# Altium footprint library conn_sw.PCBLIB: 173 footprints (part 8 of 11)
Each footprint in its own frame and in the unit in brackets; x right, y up, seen from the top. Pads: shape width x height; smd on the part's side, far side on the other; paste and mask are expansions set on the pad; w line width, h text height; cw(c..) or ccw(c..) is an arc to the next point about the centre after c.
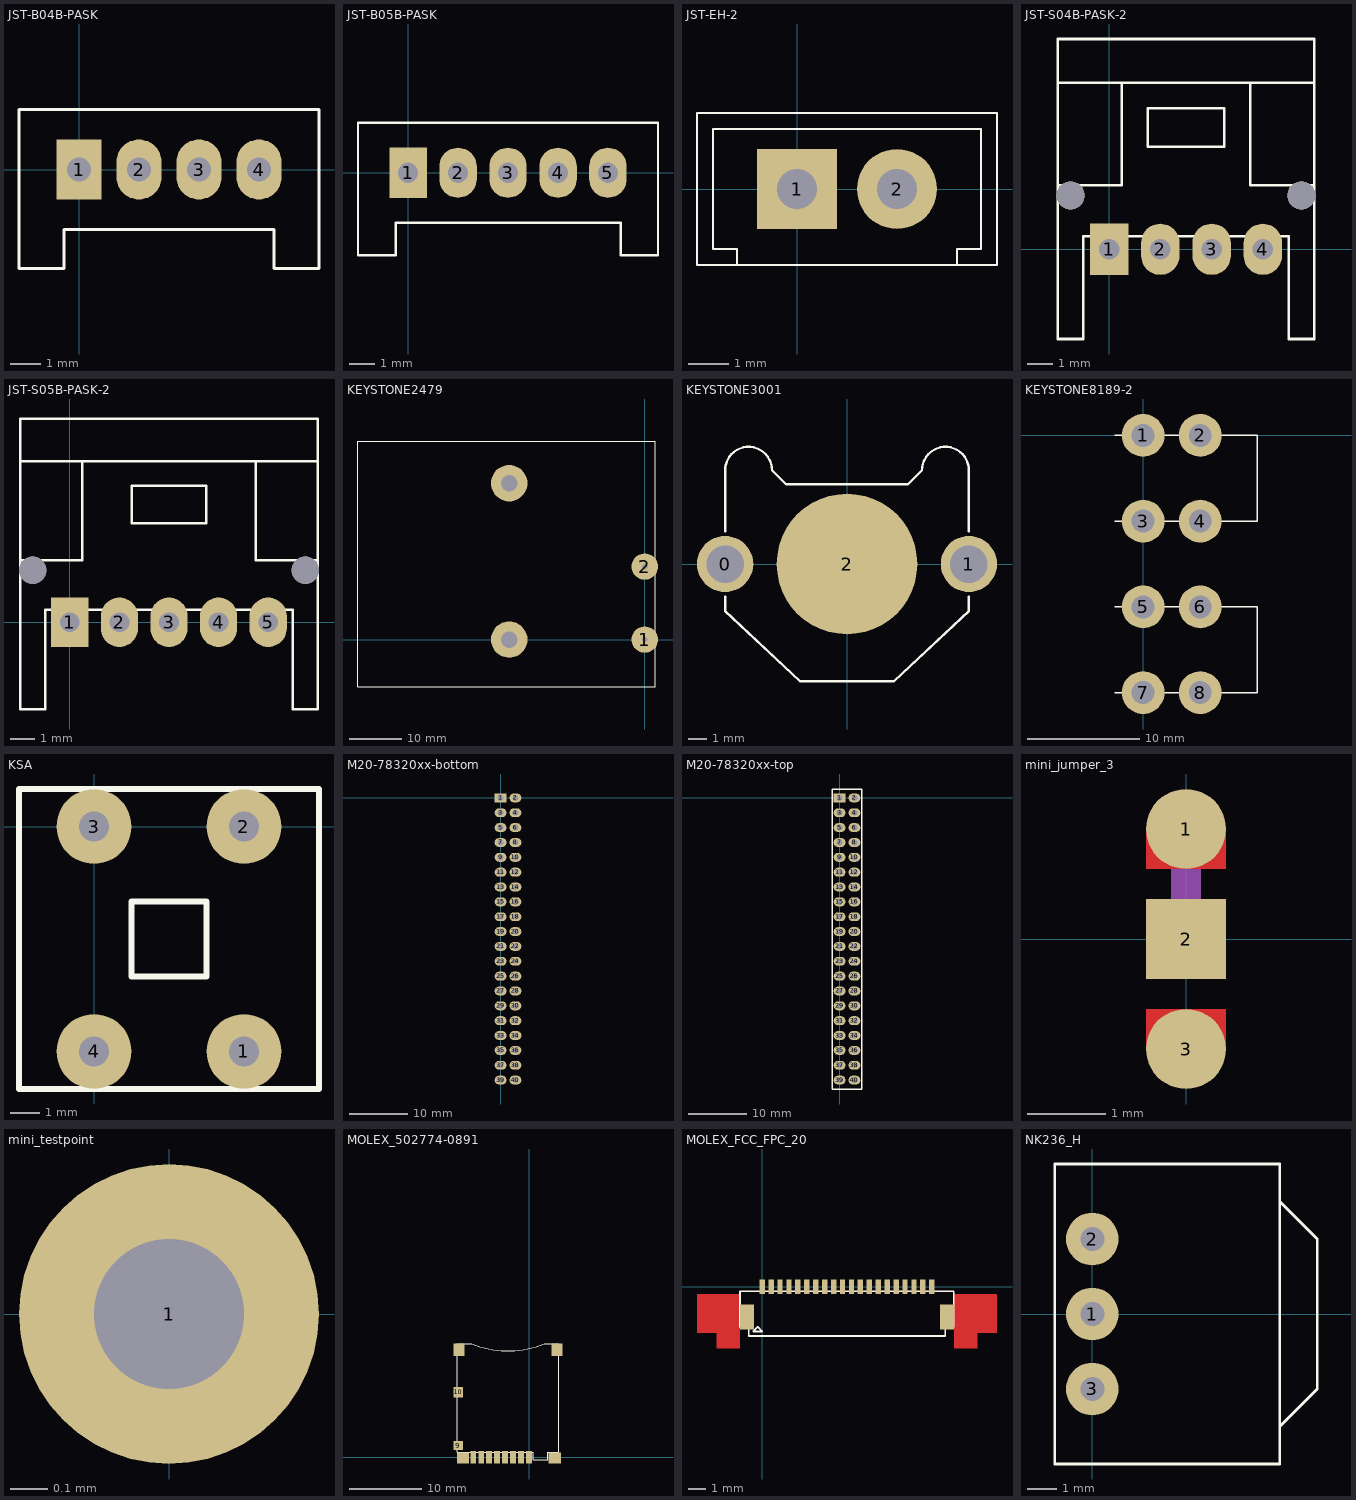
[diagram p7: the footprints below, top view; thin cyan lines are the x and y axes]

## JST-B04B-PASK [mm]
height 6
pads (4):
  rect 1.5x2 hole 0.8: 1(0,0)
  oval 1.5x2 hole 0.8: 2(2,0) 3(4,0) 4(6,0)
Top Overlay:
  lines w0.1: -2,-3.3 -2,-2 -2,2 8,2 8,-3.3 6.5,-3.3 6.5,-2 -0.5,-2 -0.5,-3.3 -2,-3.3

## JST-B05B-PASK [mm]
height 6
pads (5):
  rect 1.5x2 hole 0.8: 1(0,0)
  oval 1.5x2 hole 0.8: 2(2,0) 3(4,0) 4(6,0) 5(8,0)
Top Overlay:
  lines w0.1: -2,-3.3 -0.5,-3.3 -0.5,-2 8.5,-2 8.5,-3.3 10,-3.3 10,2 -2,2 -2,-2 -2,-3.3

## JST-EH-2 [mm]
height 6
pads (2):
  rect 2x2 hole 1: 1(0,0)
  round 2 hole 1: 2(2.5,0)
Top Overlay:
  lines w0.051: -1.5,-1.9 -1.5,-1.5 -2.1,-1.5 -2.1,1.5 4.6,1.5 4.6,-1.5 4,-1.5 4,-1.9 ; -2.5,-1.9 -2.5,1.9 5,1.9 5,-1.9 -2.5,-1.9

## JST-S04B-PASK-2 [mm]
height 6
pads (6):
  rect 1.5x2 hole 0.8: 1(0,0)
  oval 1.5x2 hole 0.8: 2(2,0) 3(4,0) 4(6,0)
  round 1.1 hole 1.1 unplated: ""(-1.5,2.1) ""(7.5,2.1)
Top Overlay:
  lines w0.1: -2,2.5 0.5,2.5 0.5,6.5 ; -2,6.5 8,6.5 ; 5.5,6.5 5.5,2.5 8,2.5 ; -2,-3.5 -2,-2 -2,8.2 8,8.2 8,-3.5 7,-3.5 7,0.5 -1,0.5 -1,-3.5 -2,-3.5 ; 1.5,4 4.5,4 4.5,5.5 1.5,5.5 1.5,4

## JST-S05B-PASK-2 [mm]
height 6
pads (7):
  rect 1.5x2 hole 0.8: 1(0,0)
  oval 1.5x2 hole 0.8: 2(2,0) 3(4,0) 4(6,0) 5(8,0)
  round 1.1 hole 1.1 unplated: ""(-1.5,2.1) ""(9.5,2.1)
Top Overlay:
  lines w0.1: -2,2.5 0.5,2.5 0.5,6.5 ; -2,6.5 10,6.5 ; 7.5,6.5 7.5,2.5 10,2.5 ; -2,-3.5 -2,-2 -2,8.2 10,8.2 10,-3.5 9,-3.5 9,0.5 -1,0.5 -1,-3.5 -2,-3.5 ; 2.5,4 5.5,4 5.5,5.5 2.5,5.5 2.5,4

## KEYSTONE2479 [mm]
pads (4):
  round 5.08 hole 1.016: 1(0,0) 2(0,14)
  round 7 hole 3.2: ""(-26,0) ""(-26,30)
Top Overlay:
  lines w0.1: -55,-9 -55,38 2,38 2,-9 -55,-9

## KEYSTONE3001 [mil]
pads (3):
  round 120 hole 80: 0(-260,0) 1(260,0)
  round 300 smd: 2(0,0)
Top Overlay:
  lines w5: -260,-70 -260,-100 -100,-250 100,-250 260,-100 260,-70 ; -260,70 -260,200 cw(c-210,200) -160,200 -130,170 130,170 160,200 cw(c210,200) 260,200 260,70

## KEYSTONE8189-2 [mil]
pads (8):
  round 150 hole 80: 1(0,0) 2(200,0) 3(0,-300) 4(200,-300) 5(0,-600) 6(200,-600) 7(0,-900) 8(200,-900)
Top Overlay:
  lines w5: -100,-900 400,-900 400,-600 -100,-600 ; -100,-300 400,-300 400,0 -100,0

## KSA [mil]
pads (4):
  round 100 hole 40: 1(200,-300) 2(200,0) 3(0,0) 4(0,-300)
Top Overlay:
  lines w8: -100,-350 -100,50 -50,50 300,50 300,-350 -100,-350 ; 50,-200 150,-200 150,-100 50,-100 50,-200

## M20-78320xx-bottom [mil]
pads (40):
  rect 80x60 hole 40: 1(0,0)
  oval 80x60 hole 40: 2(100,0) 3(0,-100) 4(100,-100) 5(0,-200) 6(100,-200) 7(0,-300) 8(100,-300) 9(0,-400) 10(100,-400) 11(0,-500) 12(100,-500) 13(0,-600) 14(100,-600) 15(0,-700) 16(100,-700) 17(0,-800) 18(100,-800) 19(0,-900) 20(100,-900) 21(0,-1000) 22(100,-1000) 23(0,-1100) 24(100,-1100) 25(0,-1200) 26(100,-1200) 27(0,-1300) 28(100,-1300) 29(0,-1400) 30(100,-1400) 31(0,-1500) 32(100,-1500) 33(0,-1600) 34(100,-1600) 35(0,-1700) 36(100,-1700) 37(0,-1800) 38(100,-1800) 39(0,-1900) 40(100,-1900)
Bottom Overlay:
  lines w10: -50,-1960 -50,60 150,60 150,-1960 -50,-1960

## M20-78320xx-top [mil]
pads (40):
  rect 80x60 hole 40: 1(0,0)
  oval 80x60 hole 40: 2(100,0) 3(0,-100) 4(100,-100) 5(0,-200) 6(100,-200) 7(0,-300) 8(100,-300) 9(0,-400) 10(100,-400) 11(0,-500) 12(100,-500) 13(0,-600) 14(100,-600) 15(0,-700) 16(100,-700) 17(0,-800) 18(100,-800) 19(0,-900) 20(100,-900) 21(0,-1000) 22(100,-1000) 23(0,-1100) 24(100,-1100) 25(0,-1200) 26(100,-1200) 27(0,-1300) 28(100,-1300) 29(0,-1400) 30(100,-1400) 31(0,-1500) 32(100,-1500) 33(0,-1600) 34(100,-1600) 35(0,-1700) 36(100,-1700) 37(0,-1800) 38(100,-1800) 39(0,-1900) 40(100,-1900)
Top Overlay:
  lines w10: -50,-1960 -50,60 150,60 150,-1960 -50,-1960

## mini_jumper_3 [mil]
pads (3):
  round 40 smd mask+5: 1(0,55) 3(0,-55)
  rect 40x40 smd: 2(0,0)
Top Layer:
  rectangle: -20,-55 20,-35
  rectangle: -20,35 20,55
Top Solder:
  rectangle: -25,-55 25,55
Mechanical 32:
  lines w15: 0,0 0,50

## mini_testpoint [mm]
pads (1):
  round 0.8 hole 0.4: 1(0,0)

## MOLEX_502774-0891 [mm]
pads (14):
  rect 0.8x1.7 smd: 1(0,0) 2(-1.1,0) 3(-2.2,0) 4(-3.3,0) 5(-4.4,0) 6(-5.5,0) 7(-6.6,0) 8(-7.7,0)
  rect 1.3x1.3 smd: 9(-9.75,1.6)
  rect 1.3x1.4 smd: 10(-9.75,8.95)
  rect 1.5x1.7 smd: ""(-9.65,14.8) ""(3.85,14.8)
  rect 1.6x1.5 smd: ""(-9.1,-0.1)
  rect 1.7x1.5 smd: ""(3.55,-0.1)
Top Overlay:
  lines w0.1: -9.9,0.65 -9.9,15.65 -7.9,15.65 ccw(c-2.9,27.525) 2.1,15.65 4.1,15.65 4.1,0.65 2.6,0.65 2.6,-0.35 0.6,-0.35 0.6,0.65 -9.9,0.65

## MOLEX_FCC_FPC_20 [mm]
pads (22):
  rect 0.3x0.8 smd: A1(0,0) A2(0.5,0) A3(1,0) A4(1.5,0) A5(2,0) A6(2.5,0) A7(3,0) A8(3.5,0) A9(4,0) A10(4.5,0) A11(5,0) A12(5.5,0) A13(6,0) A14(6.5,0) A15(7,0) A16(7.5,0) A17(8,0) A18(8.5,0) A19(9,0) A20(9.5,0)
  rect 0.8x1.4 smd: ""(-0.85,-1.7) ""(10.35,-1.7)
Top Layer:
  rectangle: -3.65,-2.6 -1.25,-0.4
  rectangle: -2.55,-3.45 -1.25,-2.6
  rectangle: 10.75,-3.45 12.05,-2.6
  rectangle: 10.75,-2.6 13.15,-0.4
Top Overlay:
  lines w0.1: -1.25,-2.25 -0.75,-2.25 -0.75,-2.75 0.3,-2.75 10.25,-2.75 10.25,-2.25 10.725,-2.25 10.725,-0.25 10.475,-0.25 0,-0.25 -1.25,-0.25 -1.25,-2.25 ; -0.5,-2.5 0,-2.5 -0.025,-2.475 -0.25,-2.25 -0.5,-2.5

## NK236_H [mil]
pads (3):
  round 70 hole 32: 1(0,0) 2(0,100) 3(0,-100)
Top Overlay:
  lines w3.94: 250,-150 300,-100 300,100 250,150 ; -50,-200 250,-200 250,200 -50,200 -50,-200